# EAGLE library part TC55328 (library wolfi)
32k x 8 CMOS SRAM
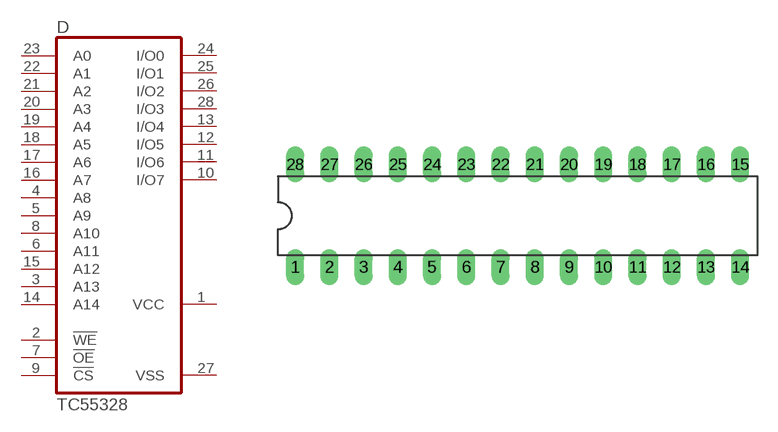
[diagram p16: symbol with the pads of DIL28-3; footprint DIL28-3]

Designator prefix D

## TC55328P (OC_FARNELL: unknown; OC_NEWARK: unknown)  [DIL28-3]
1  VCC  pwr
2  !WE  in
3  A13  in
4  A8  in
5  A9  in
6  A11  in
7  !OE  in
8  A10  in
9  !CS  in
10  I/O7
11  I/O6
12  I/O5
13  I/O4
14  A14  in
15  A12  in
16  A7  in
17  A6  in
18  A5  in
19  A4  in
20  A3  in
21  A2  in
22  A1  in
23  A0  in
24  I/O0
25  I/O1
26  I/O2
27  VSS  pwr
28  I/O3

## Footprint DIL28-3 (pad centres in mm)
Dual In Line Package Small
drill 0.813 long: 1 -16.51,-3.81; 2 -13.97,-3.81; 3 -11.43,-3.81; 4 -8.89,-3.81; 5 -6.35,-3.81; 6 -3.81,-3.81; 7 -1.27,-3.81; 8 1.27,-3.81; 9 3.81,-3.81; 10 6.35,-3.81; 11 8.89,-3.81; 12 11.43,-3.81; 13 13.97,-3.81; 14 16.51,-3.81; 15 16.51,3.81; 16 13.97,3.81; 17 11.43,3.81; 18 8.89,3.81; 19 6.35,3.81; 20 3.81,3.81; 21 1.27,3.81; 22 -1.27,3.81; 23 -3.81,3.81; 24 -6.35,3.81; 25 -8.89,3.81; 26 -11.43,3.81; 27 -13.97,3.81; 28 -16.51,3.81